# Altium schematic symbol library Strain Gauges OpAmps.SCHLIB: 35 symbols
Pins are listed as number, name and electrical type; pins without a type are passive.

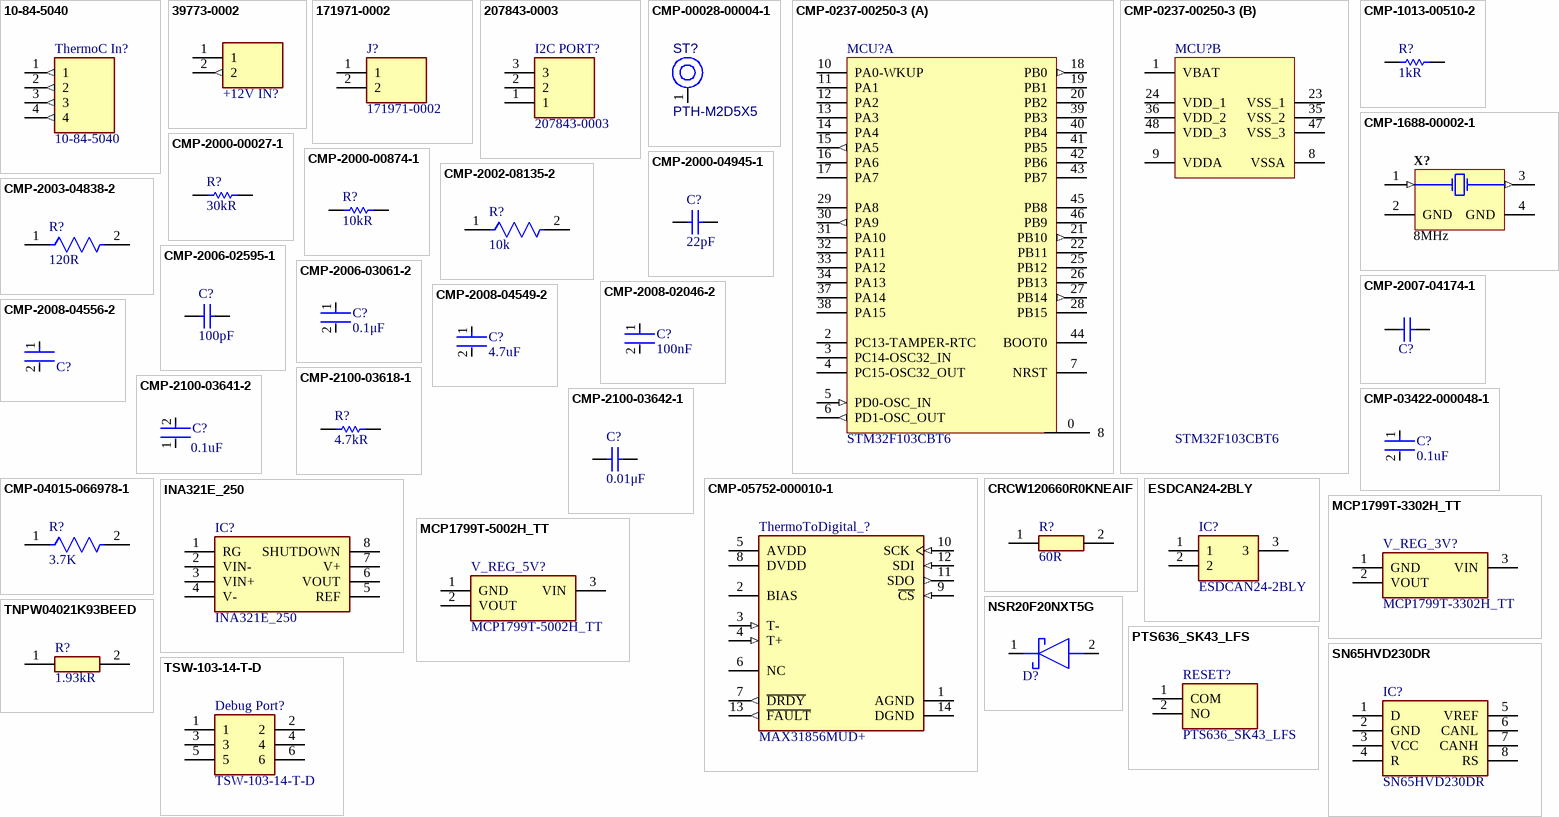
[diagram p0: symbols 10-84-5040 to TSW-103-14-T-D]

## 10-84-5040
designator ThermoC In?
Connector; Manufacturer_Name: Molex; Datasheet Link: https://www.molex.com/pdm_docs/sd/010845040_sd.pdf; Height: 14.22mm; Manufacturer_Part_Number: 10-84-5040
footprint 10845040
pins: 1 (out), 2 (out), 3 (out), 4 (out)

## 39773-0002
designator +12V IN?  (value not drawn)
Connector; Manufacturer_Name: Molex; Datasheet Link: https://www.mouser.in/datasheet/2/276/2/397730002_sd-1378779.pdf; Height: 10.1mm; Manufacturer_Part_Number: 39773-0002
footprint 397730002
pins: 1, 2 (out)

## 171971-0002
designator J?
Connector; Manufacturer_Name: Molex; Datasheet Link: https://componentsearchengine.com//171971-0002.pdf; Height: 12.16mm; Mouser2 Part Number: 538-171971-0002; Mouser2 Price/Stock: https://www.mouser.com/Search/Refine.aspx?Keyword=538-171971-0002; Manufacturer_Part_Number: 171971-0002
footprint SHDR2W65P0X254_1X2_738X510X1216P
pins: 1, 2

## 207843-0003
designator I2C PORT?
Connector; Manufacturer_Name: Molex; Datasheet Link: https://www.molex.com/pdm_docs/sd/2078430003_sd.pdf; Height: 6.95mm; Manufacturer_Part_Number: 207843-0003
footprint 2078430003
pins: 1, 2, 3

## CMP-00028-00004-1
designator ST?, comment PTH-M2D5X5
M2 PTH (2.5mm), 5mm pad; Pins: 1; Component Type: Mechanical
footprint PTH-M2D5X5
pins: 1 H1

## CMP-0237-00250-3
designator MCU?, comment STM32F103CBT6
ARM Cortex-M3 32-bit MCU, 128 KB Flash, 20 KB Internal RAM, 37 I/Os, 48-pin LQFP, -40 to 85 degC, Tray; Manufacturer: STMicroelectronics; Supply Voltage(Vcc) min (V): 2; Operating Frequency(F) (Processor speed) (MHz): 72; A/D Converter: 2x12-bit (10 Channel); FLASH Size (Prog) (kB): 128; Internal RAM Size (kB): 20; I/Os (High Current): 37; ComponentLink2Description: Datasheet; PackageReference: LQFP48; PartNumber: STM32F103CBT6; ComponentLink1Description: Manufacturer URL; DatasheetVersion: Rev. 16; PackageVersion: Rev. 6, 06/2013; Packing: Tray; ComponentLink1URL: http://www.st.com/web/en/home.html; Mounting Technology: Surface Mount; ComponentLink3URL: http://www.st.com/st-web-ui/static/active/en/resource/technical/document/datasheet/DM00058181.pdf; PackageDescription: 48-Pin Low Profile Quad Flat Package, 7 x 7 mm Body, 0.5 mm Pitch; Core: ARM Cortex-M3; ComponentLink3Description: Package Specification; ComponentLink2URL: http://www.st.com/st-web-ui/static/active/en/resource/technical/document/datasheet/CD00161566.pdf; Manufacturer Part Number: STM32F103CBT6
footprint STM-LQFP48_L (QFP, 48-Leads, Body 7x7mm, Pitch 0.5mm, IPC High Density)
footprint STM-LQFP48_N (QFP, 48-Leads, Body 7x7mm, Pitch 0.5mm, IPC Medium Density)
footprint STM-LQFP48_M (QFP, 48-Leads, Body 7x7mm, Pitch 0.5mm, IPC Low Density)
part A pins: 0 8, 2 PC13-TAMPER-RTC "PC13-TAMPER-RTC/PC13/TAMPER-RTC", 3 PC14-OSC32_IN "PC14-OSC32_IN/PC14/OSC32_IN", 4 PC15-OSC32_OUT "PC15-OSC32_OUT/PC15/OSC32_OUT", 5 PD0-OSC_IN (in) "PD0/OSC_IN", 6 PD1-OSC_OUT (out) "PD1/OSC_OUT", 7 NRST, 10 PA0-WKUP "PA0-WKUP/PA0/WKUP/USART2_CTS/ADC12_IN0/TIM2_CH1_ETR", 11 PA1 "PA1/USART2_RTS/ADC12_IN1/TIM2_CH2", 12 PA2 "PA2/USART2_TX/ADC12_IN2/TIM2_CH3", 13 PA3 "PA3/USART2_RX/ADC12_IN3/TIM2_CH4", 14 PA4 "PA4/SPI1_NSS/USART2_CK/ADC12_IN4", 15 PA5 (out) "PA5/SPI1_SCK/ADC12_IN5", 16 PA6 "PA6/SPI1_MISO/ADC12_IN6/TIM3_CH1/TIM1_BKIN", 17 PA7 "PA7/SPI1_MOSI/ADC12_IN7/TIM3_CH2/TIM1_CH1N", 18 PB0 (out) "PB0/ADC12_IN8/TIM3_CH3/TIM1_CH2N", 19 PB1 "PB1/ADC12_IN9/TIM3_CH4/TIM1_CH3N", 20 PB2 "PB2/BOOT1", 21 PB10 (out) "PB10/I2C2_SCL/USART3_TX/TIM2_CH3", 22 PB11 "PB11/I2C2_SDA/USART3_RX/TIM2_CH4", 25 PB12 "PB12/SPI2_NSS/I2C2_SMBAl/USART3_CK/TIM1_BKIN", 26 PB13 "PB13/SPI2_SCK/USART3_CTS/TIM1_CH1N", 27 PB14 (out) "PB14/SPI2_MISO/USART3_RTS/TIM1_CH2N", 28 PB15 "PB15/SPI2_MOSI/TIM1_CH3N", 29 PA8 "PA8/USART1_CK/TIM1_CH1/MCO", 30 PA9 (out) "PA9/USART1_TX/TIM1_CH2", 31 PA10 "PA10/USART1_RX/TIM1_CH3", 32 PA11 "PA11/USART1_CTS/CANRX/USBDM/TIM1_CH4", 33 PA12 "PA12/USART1_RTS/CANTX/USBDP/TIM1_ETR", 34 PA13 "PA13/JTMS/SWDIO", 37 PA14 "PA14/JTCK/SWCLK", 38 PA15 "PA15/JTDI/TIM2_CH1_ETR/SPI1_NSS", 39 PB3 "PB3/JTDO/TIM2_CH2/TRACESWO/SPI1_SCK", 40 PB4 "PB4/NJTRST/TIM3_CH1/SPI1_MISO", 41 PB5 "PB5/I2C1_SMBAI/TIM3_CH2/SPI1_MOSI", 42 PB6 "PB6/I2C1_SCL/TIM4_CH1/USART1_TX", 43 PB7 "PB7/I2C1_SDA/TIM4_CH2/USART1_RX", 44 BOOT0, 45 PB8 "PB8/TIM4_CH3/I2C1_SCL/CANRX", 46 PB9 "PB9/TIM4_CH4/I2C1_SDA/CANTX"
part B pins: 1 VBAT (power), 8 VSSA (power), 9 VDDA (power), 23 VSS_1 (power), 24 VDD_1 (power), 35 VSS_2 (power), 36 VDD_2 (power), 47 VSS_3 (power), 48 VDD_3 (power)

## CMP-1013-00510-2
designator R?, comment 1kR
Part Number: CRCW08051K00FKEA; Manufacturer: Vishay Dale; Manufacturer Part Number: CRCW08051K00FKEB; Manufacturer: Panasonic; Manufacturer Part Number: ERJ6ENF1001V; Manufacturer Part Number: CRCW08051K00FKTB; Manufacturer: Rohm; Manufacturer Part Number: MCR10EZPF1001; Manufacturer: Vishay; Manufacturer Part Number: CRCW08051K00FKEC; Manufacturer Part Number: CRCW08051K00FKTC; Manufacturer Part Number: CRCW08051K00FKTA; Manufacturer: Bourns; Manufacturer Part Number: CR0805-FX-1001ELF; Manufacturer: Yageo; Manufacturer Part Number: RC0805FR-071KL; Manufacturer Part Number: CRCW08051K00FKEA
footprint RESC2013X50X30NL20T20 (Chip Resistor, 2-Leads, Body 2.00x1.25mm, IPC Medium Density)
footprint RESC2013X50X30LL20T20 (Chip Resistor, 2-Leads, Body 2.00x1.25mm, IPC High Density)
footprint RESC2013X50X30ML20T20 (Chip Resistor, 2-Leads, Body 2.00x1.25mm, IPC Low Density)
pins: 1, 2
1 alternate drawing of the same symbol

## CMP-1688-00002-1
designator X?, comment 8MHz
Ceramic SMD Crystal, 8 MHz, +/- 20 ppm, 200 Ohm, -20 to 70 degC, 4-Pin SMD, RoHS, Tape and Reel; Manufacturer: Abracon; Manufacturer Part Number: ABM3B-8.000MHZ-B2-T; Max Supply Voltage: 45 V; Outputs: 4; Min Supply Voltage: 8.2 V; Output Voltage: 3.3 V; Switching Frequency: 30 KHz; Output Current: 1.8 A; Packaging: Rail/Tube; ComponentLink2Description: Datasheet; REACH SVHC: No SVHC; ComponentLink1URL: http://www.abracon.com/; PackageReference: ABM3B; Weight: 0.004233 oz; Height: 1.05 mm; ComponentLink2URL: http://www.abracon.com/Resonators/abm3b.pdf; Mount: Surface Mount; Min Operating Temperature: -40 degC; Max Operating Temperature: 85 degC; Package Quantity: 50; PackageDescription: 4-Pin Surface Mount Device, Body 5 x 3.2 mm; Pins: 28; DatasheetVersion: Aug-15; ComponentLink1Description: Manufacturer URL; RoHSCompliant: true; Radiation Hardening: No; Length: 9.8 mm; Width: 4.5 mm
footprint ABRA-ABM3B_V (SMD, 4-Leads, Body 5x3.2mm)
pins: 1 X1 (in), 2 GND (power), 3 X2 (out), 4 GND (power)

## CMP-2000-00027-1
designator R?, comment 30kR
Manufacturer: Panasonic; Part Number: ERA3AEB303V; Manufacturer Part Number: ERA-3AEB303V
footprint RESC1608X55X30ML20T20 (Chip Resistor, 2-Leads, Body 1.60x0.80mm, IPC Low Density)
footprint RESC1608X55X30LL20T20 (Chip Resistor, 2-Leads, Body 1.60x0.80mm, IPC High Density)
footprint RESC1608X55X30NL20T20 (Chip Resistor, 2-Leads, Body 1.60x0.80mm, IPC Medium Density)
pins: 1, 2
1 alternate drawing of the same symbol

## CMP-2000-00874-1
designator R?, comment 10kR
Part Number: ERA-3AEB103V; Manufacturer: Panasonic; Manufacturer Part Number: ERA-3AEB103V
footprint RESC1608X55X30ML20T20 (Chip Resistor, 2-Leads, Body 1.60x0.80mm, IPC Low Density)
footprint RESC1608X55X30LL20T20 (Chip Resistor, 2-Leads, Body 1.60x0.80mm, IPC High Density)
footprint RESC1608X55X30NL20T20 (Chip Resistor, 2-Leads, Body 1.60x0.80mm, IPC Medium Density)
pins: 1, 2
1 alternate drawing of the same symbol

## CMP-2000-04945-1
designator C?, comment 22pF
Chip Capacitor, 22 pF, +/- 5%, 50 V, -55 to 125 degC, 0603 (1608 Metric), RoHS, Tape and Reel; Manufacturer: Murata; Manufacturer Part Number: GRM1885C1H220JA01D; Rated Voltage: 50V; Dielectric: C0G; Capacitance: 22pF; Manufacturer URL: http://www.murata.com/; Datasheet Version: Jul-06; Package Reference: 603; Tolerance (%): ±5%; Case Size/Dimension: 0603; Package Description: 2-Pin Surface Mount Device, Body 1.6 x 0.8 mm; Datasheet URL: https://datasheet.ciiva.com/11786/0900766b807a1cab-11786398.pdf
footprint CAPC1608X90X35ML10T15 (Chip Capacitor, 2-Leads, Body 1.7x0.9mm, IPC Low Density)
footprint CAPC1608X90X35NL10T15 (Chip Capacitor, 2-Leads, Body 1.7x0.9mm, IPC Medium Density)
footprint CAPC1608X90X35LL10T15
pins: 1, 2

## CMP-2002-08135-2
designator R?, comment 10k
RES SMD 10K OHM 1% 1/16W 0402; Manufacturer: Vishay; Manufacturer Part Number: CRCW0402-10K0FKED; Power Rating: 63mW; Resistance: 10kR; Voltage Rating: 50V; Temperature Coefficient: 100ppm/°C; Case Code (Metric): 1005; Features: Automotive AEC-Q200; Termination: SMD/SMT; Mount: Surface Mount; Package Quantity: 10; Packaging: Tape and Reel; Case Code (Imperial): 0402; Weight: 2.3E-05oz; Lead Free: Lead Free; Width: 0.02inch; Max Power Dissipation: 63mW; Tolerance: 1%; Number of Terminations: 2; Height: 0.35mm; Number of Pins: 2; Composition: Thick Film; Length: 1mm; Voltage Rating (DC): 50V; Case/Package: 0402; Radiation Hardening: No; Contact Plating: Tin; Depth: 0.5mm; Military Standard: Not; Min Operating Temperature: -55°C; Max Operating Temperature: 155°C
footprint FP-CRCW0402-e3-IPC_B
footprint FP-CRCW0402-e3-IPC_A
footprint FP-CRCW0402-e3-IPC_C
footprint FP-CRCW0402-e3-MFG
pins: 1, 2

## CMP-2003-04838-2
designator R?, comment 120R
RES Thick Film, 120Ω, 1%, 0.25W, 100ppm/°C, 1206; Manufacturer: Vishay; Manufacturer Part Number: CRCW1206120RFKEA; Power Rating: 250mW; Voltage Rating: 200V; Length: 3.2mm; Tolerance: 1%; Weight: 0.000353oz; Temperature Coefficient: 100ppm/°C; Case/Package: 1206; Lead Free: Lead Free; Case Code (Metric): 3216; Min Operating Temperature: -55°C; Package Quantity: 10; Mount: Surface Mount; Height: 0.55mm; Packaging: Tape and Reel; Number of Terminations: 2; Composition: Thick Film; Width: 0.063inch; Voltage Rating (DC): 200V; Radiation Hardening: No; Contact Plating: Tin; Resistance: 120R; Case Code (Imperial): 1206; Termination: SMD/SMT; Max Power Dissipation: 250mW; Features: Automotive AEC-Q200; Military Standard: Not; Depth: 1.6mm; Max Operating Temperature: 155°C
footprint FP-CRCW1206-e3-MFG
footprint FP-CRCW1206-e3-IPC_C
footprint FP-CRCW1206-e3-IPC_B
footprint FP-CRCW1206-e3-IPC_A
pins: 1, 2

## CMP-2006-02595-1
designator C?, comment 100pF
Part Number: GRM1885C1H101JA01D; Manufacturer: Murata; Manufacturer Part Number: GRM1885C1H101JA01D
footprint CAPC1608X90X35NL10T15 (Chip Capacitor, 2-Leads, Body 1.60x0.80mm, IPC Medium Density)
footprint CAPC1608X90X35ML10T15 (Chip Capacitor, 2-Leads, Body 1.60x0.80mm, IPC Low Density)
footprint CAPC1608X90X35LL10T15 (Chip Capacitor, 2-Leads, Body 1.60x0.80mm, IPC High Density)
pins: 1, 2
1 alternate drawing of the same symbol

## CMP-2006-03061-2
designator C?, comment 0.1μF
CAP CER 0.1UF 50V X7R 0603; Manufacturer: KEMET; Manufacturer Part Number: C0603C104K5RACTU; Tolerance: 0.1; Temperature Coefficient: 30ppm/°C; Material: Ceramic; Automotive Grade: Grade 1; Value: 0.10 μF; Temperature: -55°C to +125°C; RoHS: TRUE; Temperature Range High: +125°C; Lead Free: Yes; Octopart: https://octopart.com/c0603c104k5ractu-kemet-139244; Digikey Description: CAP CER 0.1UF 50V X7R 0603; Category: Cap; Package: C0603C-CF; ComponentLink2Description: Datasheet; Temperature Range Low: -55°C; Device Class L1: Passive Components; Voltage Rating: 50 V; Automotive: Yes; Device Class L3: Ceramic Capacitors; ComponentLink2URL: https://api.kemet.com/component-edge/download/datasheet/C0603C100J5GACAUTO.pdf; Capacitance: 0.10 μF; Device Class L2: Capacitors; Temperature Characteristic: X7R; Height: 0.87mm
footprint FP-C0603C-CF-MFG
footprint FP-C0603C-CF-IPC_C
footprint FP-C0603C-CF-IPC_B
footprint FP-C0603C-CF-IPC_A
pins: 1, 2

## CMP-2007-04174-1
designator C?, comment 08051C104KAT2A  (value not drawn)
Manufacturer: AVX Interconnect / Elco; Manufacturer: Kyocera AVX; Part Number: 08051C104KAT2A; Manufacturer Part Number: 08051C104KAT2A
footprint CAPC2013X94X50ML20T25 (Chip Capacitor, 2-Leads, Body 2.01x1.25mm, IPC Low Density)
footprint CAPC2013X94X50LL20T25 (Chip Capacitor, 2-Leads, Body 2.01x1.25mm, IPC High Density)
footprint CAPC2013X94X50NL20T25 (Chip Capacitor, 2-Leads, Body 2.01x1.25mm, IPC Medium Density)
pins: 1, 2
1 alternate drawing of the same symbol

## CMP-2008-02046-2
designator C?, comment 100nF
CAP CER 0.1UF 10V X5R 0402; Manufacturer: Kemet; Manufacturer Part Number: C0402C104K8PACTU; Material: Ceramic; Capacitance: 0.10 μF; Temperature Coefficient: 15%; Tolerance: 0.1; Value: 0.10 μF; Package: C0402-BB; Temperature: -55°C to +125°C; ComponentLink2Description: Datasheet; Temperature Characteristic: X5R; Device Class L1: Passive Components; Height: 0.55mm; Lead Free: Yes; ComponentLink2URL: https://content.kemet.com/datasheets/KEM_C1002_X7R_SMD.pdf; Device Class L2: Capacitors; Temperature Range Low: -55°C; Temperature Range High: +125°C; RoHS: TRUE; Octopart: https://octopart.com/c0402c104k8pactu-kemet-140039; Automotive: No; Mouser Description: Capacitor 100 nF 10 VDC 0402; Category: Cap; Voltage Rating: 10 V; Digikey Description: CAP CER 0.1UF 10V X5R 0402; Ipc Land Pattern Name: CAPC10050X50; Device Class L3: Ceramic Capacitors; Manufacturer: KEMET
footprint FP-C0402-BB-MFG
footprint FP-C0402-BB-IPC_C
footprint FP-C0402-BB-IPC_B
footprint FP-C0402-BB-IPC_A
pins: 1, 2

## CMP-2008-04549-2
designator C?, comment 4.7uF
Chip Multilayer Ceramic Capacitors for General Purpose, 0402, 4.7uF, X5R, 15%, 20%, 6.3V; Manufacturer: Murata; Manufacturer Part Number: GRM155R60J475ME47D; Height: 0.5mm; Weight: 0.000212oz; Length: 1mm; Case Code (Metric): 1005; Packaging: Tape and Reel; Termination: SMD/SMT; Dielectric: X5R; Depth: 0.5mm; Case Code (Imperial): 0402; Min Operating Temperature: -55°C; Case/Package: 0402; Voltage: 6.3V; Width: 0.02inch; Capacitance: 4.7uF; Lead Free: Lead Free; Thickness: 0.022inch; Contact Plating: Tin; REACH SVHC: No SVHC; Package Quantity: 10000; Tolerance: 20%; Voltage Rating (DC): 6.3V; Voltage Rating: 6.3V; Mount: Surface Mount; Max Operating Temperature: 85°C
footprint FP-GRM155-0_1-IPC_B
footprint FP-GRM155-0_1-IPC_A
footprint FP-GRM155-0_1-IPC_C
footprint FP-GRM155-0_1-MFG
pins: 1, 2

## CMP-2008-04556-2
designator C?, comment GRM155R61A105KE15D  (value not drawn)
CAP CER 1UF 10V X5R 0402; Manufacturer: Murata; Material: Ceramic; Tolerance: 10%; Temperature Coefficient: 15%; Octopart: https://octopart.com/grm155r61a105ke15d-murata-197442; Manufacturer Part Number: GRM155R61A105KE15D; Lead Free: Yes; ComponentLink2Description: Datasheet; Temperature: -55°C to +85°C; Temperature Range High: +85°C; Height: 0.55mm; Capacitance: 1uF; Ipc Land Pattern Name: CAPC10050X50; ComponentLink2URL: https://search.murata.co.jp/Ceramy/image/img/A01X/G101/ENG/GRM155R61A105KE15-01A.pdf; Temperature Range Low: -55°C; Device Class L2: Capacitors; Voltage Rating: 10V; RoHS: TRUE; Device Class L1: Passive Components; Device Class L3: Ceramic Capacitors; Temperature Characteristic: X5R; Mouser Description: 0402 1 uF 10 V ±10% Tolerance X5R Surface Mount Multilayer Ceramic Capacitor; Automotive: No; Package: GRM15-0.1; Digikey Description: CAP CER 1UF 10V X5R 0402; Value: 1uF; Category: Cap
footprint FP-GRM15-0_1-MFG
footprint FP-GRM15-0_1-IPC_C
footprint FP-GRM15-0_1-IPC_B
footprint FP-GRM15-0_1-IPC_A
pins: 1, 2

## CMP-2100-03618-1
designator R?, comment 4.7kR
Chip Resistor, 4.7 KOhm, +/- 1%, 0.25 W, -55 to 155 degC, 1206 (3216 Metric), RoHS, Tape and Reel; Manufacturer: Vishay Semiconductor; Manufacturer: Vishay; Manufacturer Part Number: CRCW12064K70FKEA; Power Rating: 250mW; Voltage Rating: 200V; Temperature Coefficient: 100ppm/degreesC; Package Quantity: 10; Composition: ThickFilm; REACH SVHC: Unknown; Mount: SurfaceMount; Max Operating Temperature: 155degC; Length: 3.2mm; Number of Terminations: 2; Case Code (Metric): 3216; Military Standard: Not; Width: 1.6mm; Datasheet Version: 41061.0; Max Power Dissipation: 250mW; Datasheet URL: http://www.vishay.com/docs/20035/dcrcwe3.pdf; Contact Plating: Tin; Case/Package: 1206; Height: 0.55mm; Package Reference: 1206.0; Lead Free: LeadFree; Weight: 0.000353oz; Package Description: 2-Pin Surface Mount Device, Body 3.15 x 1.6 mm; Min Operating Temperature: -55degC; Resistance: 4.7KOhm; Packaging: TapeandReel; Depth: 1.6mm; Tolerance: 1%; RoHSCompliant: true; Termination: SMD/SMT; Case Code (Imperial): 1206; Voltage Rating (DC): 200V; Radiation Hardening: No; Manufacturer URL: http://www.vishay.com/
footprint RESC3216X60X45ML15T20 (Chip Resistor, 2-Leads, Body 3.3x1.75mm, IPC Low Density)
footprint RESC3216X60X45NL15T20 (Chip Resistor, 2-Leads, Body 3.3x1.75mm, IPC Medium Density)
footprint RESC3216X60X45LL15T20 (Chip Resistor, 2-Leads, Body 3.3x1.75mm, IPC High Density)
pins: 1, 2

## CMP-2100-03641-2
designator C?, comment 0.1uF
CAP CER 0.1UF 16V X7R 0402; Manufacturer Part Number: GRM155R71C104KA88D; Manufacturer: Murata; Standoff Height: 0mm; Tolerance: 10%; Voltage Rating: 16Vdc; Material: Ceramic; Capacitance: 0.10μF; Value: 0.10μF; RoHS: TRUE; Temperature Characteristic: X7R; Octopart: https://octopart.com/grm155r71c104ka88d-murata-196880; Digikey Description: CAP CER 0.1UF 16V X7R 0402; Device Class L3: Ceramic Capacitors; Height: 0.55mm; ComponentLink2Description: Datasheet; Temperature Range Low: -55°C; Ipc Land Pattern Name: CAPC10050X219; ComponentLink2URL: https://search.murata.co.jp/Ceramy/image/img/A01X/G101/ENG/GRM155R71H471KA01-01A.pdf; Device Class L1: Passive Components; Lead Free: yes; Category: Cap; Package: GRM15; Temperature: -55°C to +125°C; Device Class L2: Capacitors; Temperature Range High: +125°C; Mouser Description: 0402 0.1 uF 16V ±10 % Tolerance X7R SMT Multilayer Ceramic Capacitor
footprint FP-GRM15-MFG
footprint FP-GRM15-IPC_C
footprint FP-GRM15-IPC_B
footprint FP-GRM15-IPC_A
pins: 1, 2

## CMP-2100-03642-1
designator C?, comment 0.01μF
Chip Capacitor, 10 nF, +/- 10%, 50 V, -55 to 125 degC, 0603 (1608 Metric), RoHS, Tape and Reel; Manufacturer: Murata; Manufacturer Part Number: GRM188R71H103KA01D; Insulation Resistance: 10GR; Dielectric: X7R; Voltage Rating: 50V; Capacitance: 10nF; Material: Ceramic; Package Quantity: 1; Lead Free: LeadFree; Case/Package: 0603; Termination: SMD/SMT; REACH SVHC: Unknown; Manufacturer URL: http://www.murata.com/; Datasheet URL: http://search.murata.co.jp/Ceramy/image/img/A01X/G101/ENG/GRM188R71H103KA01-01.pdf; Mount: SurfaceMount; Datasheet Version: 42401.0; Number of Pins: 2; Length: 1.6mm; Voltage: 50V; Depth: 0.8mm; Tolerance: 10%; Min Operating Temperature: -55degC; Voltage Rating (DC): 50V; Max Operating Temperature: 125degC; Package Description: 2-Pin Surface Mount Device, Body 1.6 x 0.8 mm; RoHSCompliant: True; Case Code (Imperial): 0603; Width: 0.031inch; Case Code (Metric): 1608; Height: 0.8mm; Package Reference: 0603; Packaging: TapeandReel; Thickness: 0.035inch; Dielectric Material: Ceramic
footprint CAPC1608X90X35ML10T15 (Chip Capacitor, 2-Leads, Body 1.7x0.9mm, IPC Low Density)
footprint CAPC1608X90X35NL10T15 (Chip Capacitor, 2-Leads, Body 1.7x0.9mm, IPC Medium Density)
footprint CAPC1608X90X35LL10T15
pins: 1, 2

## CMP-03422-000048-1
designator C?, comment 0.1uF
CAP CER 0.1UF 16V X7R 0402; Manufacturer: YAGEO; Manufacturer Part Number: CC0402KRX7R7BB104; Material: Ceramic; Automotive Grade: NA; Capacitance: 100 nF; Temperature Coefficient: 30ppm/°C; Tolerance: 0.1; Value: 100 nF; Device Class L1: Passive Components; Temperature Range Low: -55°C; Device Class L3: Ceramic Capacitors; Temperature Characteristic: X7R; Ipc Land Pattern Name: CAPC10050X50; Temperature Range High: +125°C; Voltage Rating: 16 V; Temperature: -55°C to +125°C; RoHS: TRUE; Automotive: No; Height: 0.55mm; Device Class L2: Capacitors; Digikey Description: CAP CER 0.1UF 16V X7R 0402; Package: CC0402; Footprint Url: http://www.yageo.com/exep/pages/download/literatures/UPY-C_GEN_24.pdf; ComponentLink2Description: Datasheet; Category: Cap; Lead Free: Yes; Octopart: https://octopart.com/cc0402krx7r7bb104-yageo-42244624; ComponentLink2URL: http://www.yageo.com/documents/recent/UPY-GP_NP0_16V-to-50V_16.pdf; Mouser Description: 0402 0.1 uF 16 V ±10 % Tolerance X7R SMT Multilayer Ceramic Capacitor; Manufacturer: Yageo
footprint FP-CC0402-MFG
footprint FP-CC0402-IPC_C
footprint FP-CC0402-IPC_B
footprint FP-CC0402-IPC_A
pins: 1, 2

## CMP-04015-066978-1
designator R?, comment 3.7K
3.7kΩ ±0.25% 0.063W, 1/16W Chip Resistor 0603 (1608 Metric) Moisture Resistant Thin Film; Manufacturer: KOA Speer; Manufacturer Part Number: RN731JTTD3701C10; Voltage Rating: 50V; Power Rating: 63mW; Temperature Coefficient: 10ppm/°C; Resistance: 3.7kR; Min Operating Temperature: -55°C; Packaging: Tape and Reel; Tolerance: 0.25%; Termination: SMD/SMT; Case/Package: 0603; Case Code (Metric): 1608; Case Code (Imperial): 0603; Composition: Thin Film; Max Operating Temperature: 125°C
footprint FP-RN731J-MFG
footprint FP-RN731J-IPC_C
footprint FP-RN731J-IPC_A
footprint FP-RN731J-IPC_B
pins: 1, 2

## CMP-05752-000010-1
designator ThermoToDigital_?, comment MAX31856MUD+
IC CONV THERMOCOUPLE 14TSSOP; Manufacturer: Maxim; Operating Supply Current: 1.2mA; Min Supply Voltage: 3V; Max Supply Voltage: 3.6V; Output Type: Digital; Interface: SPI; Min Operating Temperature: -55°C; Max Operating Temperature: 125°C; Case/Package: TSSOP; Mount: Surface Mount; Packaging: Rail/Tube; Number of Pins: 14; Manufacturer Part Number: MAX31856MUD+
footprint FP-U14-2-MFG
footprint FP-U14-2-IPC_C
footprint FP-U14-2-IPC_B
footprint FP-U14-2-IPC_A
pins: 1 AGND (power), 2 BIAS, 3 T- (in), 4 T+ (in), 5 AVDD (power), 6 NC, 7 ~{DRDY} (out), 8 DVDD (power), 9 ~{CS} (in), 10 SCK (in), 11 SDO (out), 12 SDI (in), 13 ~{FAULT} (out), 14 DGND (power)

## CRCW120660R0KNEAIF
designator R?, comment 60R
Resistor; Manufacturer_Name: Vishay; Manufacturer_Part_Number: CRCW120660R0KNEAIF; Datasheet Link: http://componentsearchengine.com/Datasheets/1/CRCW120660R0KNEAIF.pdf; Height: 0.6mm
footprint RESC3216X60N
pins: 1, 2

## ESDCAN24-2BLY
designator IC?
Integrated Circuit; Manufacturer_Name: STMicroelectronics; Datasheet Link: https://componentsearchengine.com//ESDCAN24-2BLY.pdf; Height: 1.5mm; Mouser2 Part Number: 511-ESDCAN24-2BLY; Mouser2 Price/Stock: https://www.mouser.com/Search/Refine.aspx?Keyword=511-ESDCAN24-2BLY; Manufacturer_Part_Number: ESDCAN24-2BLY
footprint SOT105P255X150-3N
pins: 1, 2, 3

## INA321E_250
designator IC?
Integrated Circuit; Manufacturer_Name: Texas Instruments; Manufacturer_Part_Number: INA321E/250; Datasheet Link: http://www.ti.com/lit/gpn/INA321; Height: 1.1mm
footprint SOP65P490X110-8N
pins: 1 RG, 2 VIN-, 3 VIN+, 4 V-, 5 REF, 6 VOUT, 7 V+, 8 SHUTDOWN

## MCP1799T-3302H_TT
designator V_REG_3V?
Power Supply; Manufacturer_Name: Microchip; Manufacturer_Part_Number: MCP1799T-3302H/TT; Datasheet Link: https://ms.componentsearchengine.com/Datasheets/1/MCP1799T-3302H_TT.pdf; Height: 1.12mm
footprint SOT95P237X112-3N
pins: 1 GND, 2 VOUT, 3 VIN

## MCP1799T-5002H_TT
designator V_REG_5V?
Integrated Circuit; Manufacturer_Name: Microchip; Manufacturer_Part_Number: MCP1799T-5002H/TT; Datasheet Link: https://www.arrow.com/en/products/mcp1799t-5002htt/microchip-technology; Height: 1.12mm
footprint SOT95P237X112-3N
pins: 1 GND, 2 VOUT (power), 3 VIN

## NSR20F20NXT5G
designator D?  (value not drawn)
Schottky Diode; Manufacturer_Name: ON Semiconductor; Datasheet Link: https://www.onsemi.com/pdf/datasheet/nsr20f20-d.pdf; Height: 0.31mm; Manufacturer_Part_Number: NSR20F20NXT5G
footprint NSR20F20NXT5G
pins: 1 K, 2 A

## PTS636_SK43_LFS
designator RESET?
Switch; Manufacturer_Name: C & K COMPONENTS; Manufacturer_Part_Number: PTS636 SK43 LFS; Datasheet Link: https://componentsearchengine.com/Datasheets/1/PTS636 SK43 LFS.pdf; Height: 4.5mm
footprint PTS636SK43LFS
pins: 1 COM, 2 NO

## SN65HVD230DR
designator IC?
Integrated Circuit; Manufacturer_Name: Texas Instruments; Datasheet Link: http://www.ti.com/lit/gpn/sn65hvd230; Height: 1.75mm; Mouser2 Part Number: 595-SN65HVD230DR; Mouser2 Price/Stock: https://www.mouser.com/Search/Refine.aspx?Keyword=595-SN65HVD230DR; Manufacturer_Part_Number: SN65HVD230DR
footprint SOT127P600X175-8N
pins: 1 D, 2 GND, 3 VCC, 4 R, 5 VREF, 6 CANL, 7 CANH, 8 RS

## TNPW04021K93BEED
designator R?, comment 1.93kR
Resistor; Manufacturer_Name: ROHM Semiconductor; Manufacturer_Part_Number: KTR10EZPF1694; Datasheet Link: http://rohmfs.rohm.com/en/products/databook/datasheet/passive/resistor/chip_resistor/ktr.pdf; Height: 0.65mm
footprint TNPW04021K93BEED (Chip Resistor, 2-Leads, Body 1,00x0,50mm, IPC Medium Density)
pins: 1, 2

## TSW-103-14-T-D
designator Debug Port?
Connector; Manufacturer_Name: SAMTEC; Datasheet Link: http://suddendocs.samtec.com/prints/tsw-xxx-xx-xxx-x-xx-xxx-mkt.pdf; Manufacturer_Part_Number: TSW-103-14-T-D
footprint TSW-103-XX-YY-D
pins: 1, 2, 3, 4, 5, 6